# Altium footprint library KMR231NG.PcbLib: 1 footprints
Each footprint in its own frame and in the unit in brackets; x right, y up, seen from the top. Pads: shape width x height; smd on the part's side, far side on the other; paste and mask are expansions set on the pad; w line width, h text height; cw(c..) or ccw(c..) is an arc to the next point about the centre after c.
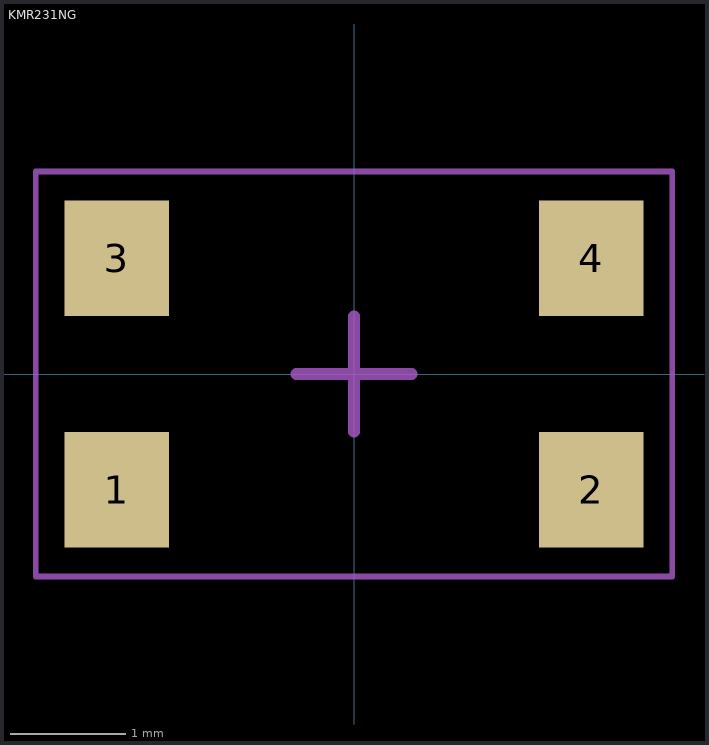
[diagram p0: the footprint, top view; thin cyan lines are the x and y axes]

## KMR231NG [mm] "PB SW SM TOP"
height 1.9
pads (4):
  rect 0.9x1 smd: 1(-2.05,-1) 2(2.05,-1) 3(-2.05,1) 4(2.05,1)
Top Courtyard:
  lines w0.05: -2.75,-1.75 -2.75,1.75 2.75,1.75 2.75,-1.75 -2.75,-1.75
  lines w0.1: -0.5,0 0.5,0 ; 0,-0.5 0,0.5